# Altium footprint library AMASS_XT30UPB-M.PcbLib: 1 footprints
Each footprint in its own frame and in the unit in brackets; x right, y up, seen from the top. Pads: shape width x height; smd on the part's side, far side on the other; paste and mask are expansions set on the pad; w line width, h text height; cw(c..) or ccw(c..) is an arc to the next point about the centre after c.
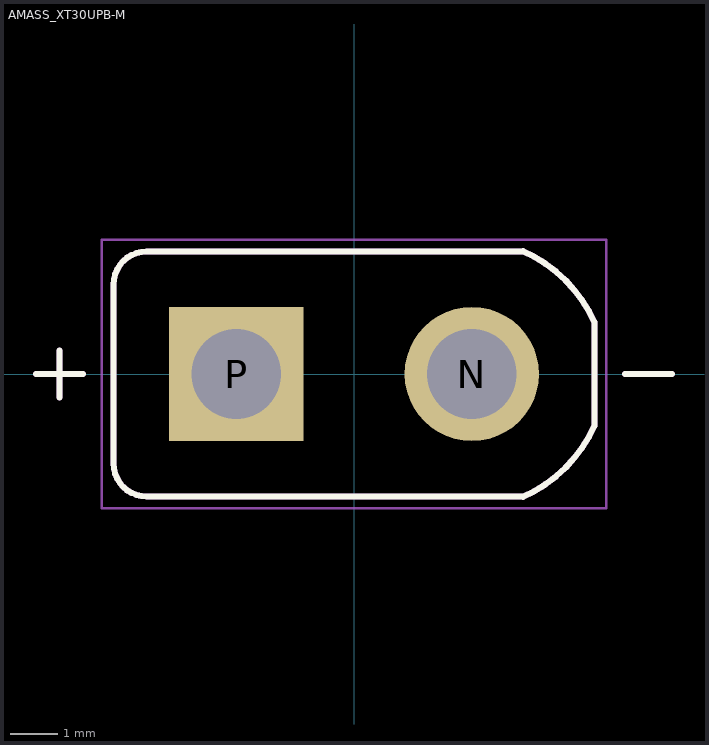
[diagram p0: the footprint, top view; thin cyan lines are the x and y axes]

## AMASS_XT30UPB-M [mm]
height 10.7
pads (2):
  round 2.85 hole 1.9 mask+0.102: N(2.5,0)
  rect 2.85x2.85 / inner round 2.85 / far side rect 2.85x2.85 hole 1.9 mask+0.102: P(-2.5,0)
Top Overlay:
  lines w0.127: -6.75,0 -5.75,0 ; -6.25,-0.5 -6.25,0.5 ; 3.586,-2.606 ccw(c2.366,0.134) 5.106,-1.086 ; 3.586,2.606 cw(c2.366,-0.134) 5.106,1.086 ; 3.6,-2.6 -4.4,-2.6 cw(c-4.4,-1.9) -5.1,-1.9 -5.1,1.9 cw(c-4.4,1.9) -4.4,2.6 3.6,2.6 ; 5.1,-1.1 5.1,1.1 ; 5.75,0 6.75,0
Assembly Top:
  lines w0.127: -6.75,0 -5.75,0 ; -6.25,-0.5 -6.25,0.5 ; 3.586,-2.606 ccw(c2.366,0.134) 5.106,-1.086 ; 3.586,2.606 cw(c2.366,-0.134) 5.106,1.086 ; 3.6,-2.6 -4.4,-2.6 cw(c-4.4,-1.9) -5.1,-1.9 -5.1,1.9 cw(c-4.4,1.9) -4.4,2.6 3.6,2.6 ; 5.1,-1.1 5.1,1.1 ; 5.75,0 6.75,0
Courtyard Top:
  lines w0.05: -5.35,-2.85 -5.35,2.85 5.35,2.85 5.35,-2.85 -5.35,-2.85
3D body "step_temp.STEP": height 10.7, standoff -2, extent -5.1,-2.6 5.1,2.6